# Altium footprint library TM4C123GH6PMI.PcbLib: 2 footprints
Each footprint in its own frame and in the unit in brackets; x right, y up, seen from the top. Pads: shape width x height; smd on the part's side, far side on the other; paste and mask are expansions set on the pad; w line width, h text height; cw(c..) or ccw(c..) is an arc to the next point about the centre after c.
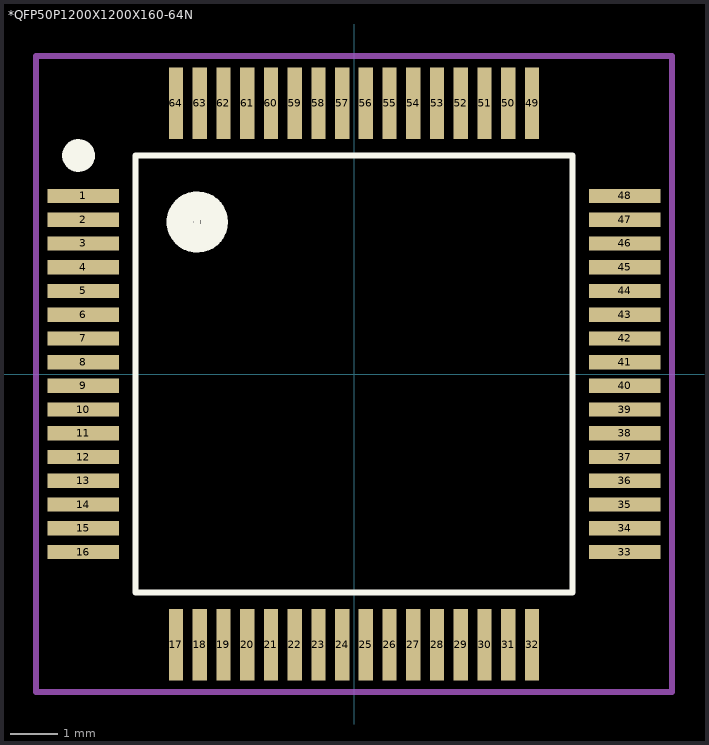
[diagram p0: the footprints below, top view; thin cyan lines are the x and y axes]

## *QFP50P1200X1200X160-64N [mm]
pads (64):
  rect 1.5x0.3 smd: 1(-5.7,3.75) 2(-5.7,3.25) 3(-5.7,2.75) 4(-5.7,2.25) 5(-5.7,1.75) 6(-5.7,1.25) 7(-5.7,0.75) 8(-5.7,0.25) 9(-5.7,-0.25) 10(-5.7,-0.75) 11(-5.7,-1.25) 12(-5.7,-1.75) 13(-5.7,-2.25) 14(-5.7,-2.75) 15(-5.7,-3.25) 16(-5.7,-3.75) 33(5.7,-3.75) 34(5.7,-3.25) 35(5.7,-2.75) 36(5.7,-2.25) 37(5.7,-1.75) 38(5.7,-1.25) 39(5.7,-0.75) 40(5.7,-0.25) 41(5.7,0.25) 42(5.7,0.75) 43(5.7,1.25) 44(5.7,1.75) 45(5.7,2.25) 46(5.7,2.75) 47(5.7,3.25) 48(5.7,3.75)
  rect 0.3x1.5 smd: 17(-3.75,-5.7) 18(-3.25,-5.7) 19(-2.75,-5.7) 20(-2.25,-5.7) 21(-1.75,-5.7) 22(-1.25,-5.7) 23(-0.75,-5.7) 24(-0.25,-5.7) 25(0.25,-5.7) 26(0.75,-5.7) 27(1.25,-5.7) 28(1.75,-5.7) 29(2.25,-5.7) 30(2.75,-5.7) 31(3.25,-5.7) 32(3.75,-5.7) 49(3.75,5.7) 50(3.25,5.7) 51(2.75,5.7) 52(2.25,5.7) 53(1.75,5.7) 54(1.25,5.7) 55(0.75,5.7) 56(0.25,5.7) 57(-0.25,5.7) 58(-0.75,5.7) 59(-1.25,5.7) 60(-1.75,5.7) 61(-2.25,5.7) 62(-2.75,5.7) 63(-3.25,5.7) 64(-3.75,5.7)
Top Overlay:
  circle w0.127: c-5.9,4.6 r0.1
  circle w0.127: c-5.8,4.6 r0.141
  circle w0.127: c-5.8,4.6 r0.1
  circle w0.127: c-5.8,4.6 r0.141
  circle w0.127: c-5.8,4.6 r0.224
  circle w0.127: c-5.8,4.6 r0.283
  circle w0.127: c-3.4,3.2 r0.1
  circle w0.127: c-3.3,3.2 r0.224
  circle w0.127: c-3.3,3.2 r0.141
  circle w0.127: c-3.3,3.2 r0.361
  circle w0.127: c-3.3,3.2 r0.283
  circle w0.127: c-3.3,3.2 r0.424
  circle w0.127: c-3.3,3.2 r0.5
  circle w0.127: c-3.3,3.2 r0.566
  circle w0.127: c-3.3,3.2 r0.583
  lines w0.127: -4.6,-4.6 -4.6,4.6 4.6,4.6 4.6,-4.6 -4.6,-4.6
Mechanical 16:
  lines w0.127: -6.7,-6.7 -6.7,6.7 6.7,6.7 6.7,-6.7 -6.7,-6.7

## PCBComponent_1 [mm]